# EAGLE library part KSZ8863 (library microchip)
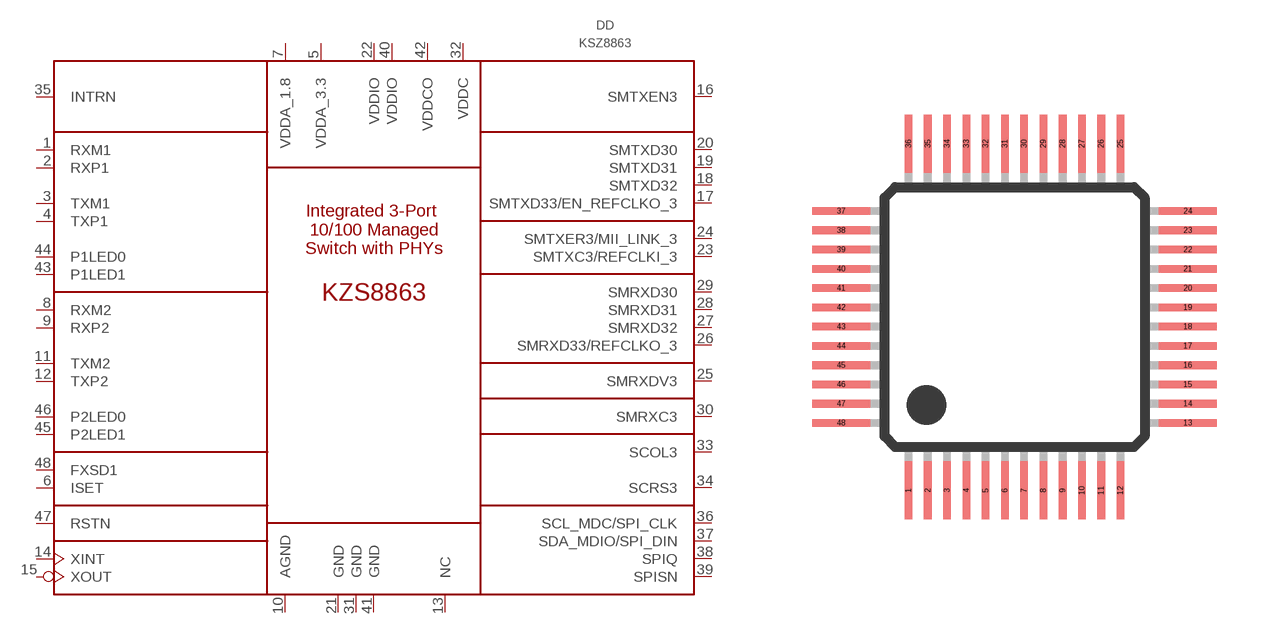
[diagram p2: symbol with the pads of LQFP48; footprint LQFP48]

Designator prefix DD

## KSZ8863MLL  [LQFP48]
1  RXM1
2  RXP1
3  TXM1
4  TXP1
5  VDDA_3.3  pwr
6  ISET  pas
7  VDDA_1.8  pwr
8  RXM2
9  RXP2
10  AGND  pwr
11  TXM2
12  TXP2
13  NC  nc
14  XINT  in
15  XOUT  out
16  SMTXEN3  in
17  SMTXD33/EN_REFCLKO_3  in
18  SMTXD32  in
19  SMTXD31  in
20  SMTXD30  in
21  GND  pwr
22  VDDIO  pwr
23  SMTXC3/REFCLKI_3
24  SMTXER3/MII_LINK_3  in
25  SMRXDV3
26  SMRXD33/REFCLKO_3
27  SMRXD32
28  SMRXD31
29  SMRXD30
30  SMRXC3
31  GND  pwr
32  VDDC  pwr
33  SCOL3
34  SCRS3
35  INTRN  out
36  SCL_MDC/SPI_CLK
37  SDA_MDIO/SPI_DIN
38  SPIQ
39  SPISN  in
40  VDDIO  pwr
41  GND  pwr
42  VDDCO  pwr
43  P1LED1
44  P1LED0
45  P2LED1
46  P2LED0
47  RSTN  in
48  FXSD1  in

## KSZ8863RLL  [LQFP48]
Pads as for LQFP48

## KSZ8863FLL  [LQFP48]
Pads as for LQFP48

## Footprint LQFP48 (pad centres in mm)
48-pin plastic LQFP (FPT-48P-M26) www.fma.fujitsu.com/pdf/e713717.pdf
smd 0.2 x 1.5: 1 -2.75,-4.5; 2 -2.25,-4.5; 3 -1.75,-4.5; 4 -1.25,-4.5; 5 -0.75,-4.5; 6 -0.25,-4.5; 7 0.25,-4.5; 8 0.75,-4.5; 9 1.25,-4.5; 10 1.75,-4.5; 11 2.25,-4.5; 12 2.75,-4.5; 25 2.75,4.5; 26 2.25,4.5; 27 1.75,4.5; 28 1.25,4.5; 29 0.75,4.5; 30 0.25,4.5; 31 -0.25,4.5; 32 -0.75,4.5; 33 -1.25,4.5; 34 -1.75,4.5; 35 -2.25,4.5; 36 -2.75,4.5
smd 1.5 x 0.2: 13 4.5,-2.75; 14 4.5,-2.25; 15 4.5,-1.75; 16 4.5,-1.25; 17 4.5,-0.75; 18 4.5,-0.25; 19 4.5,0.25; 20 4.5,0.75; 21 4.5,1.25; 22 4.5,1.75; 23 4.5,2.25; 24 4.5,2.75; 37 -4.5,2.75; 38 -4.5,2.25; 39 -4.5,1.75; 40 -4.5,1.25; 41 -4.5,0.75; 42 -4.5,0.25; 43 -4.5,-0.25; 44 -4.5,-0.75; 45 -4.5,-1.25; 46 -4.5,-1.75; 47 -4.5,-2.25; 48 -4.5,-2.75